# Altium schematic symbol library IC_Ext_4000.SchLib: 1 symbol
Pins are listed as number, name and electrical type; pins without a type are passive.

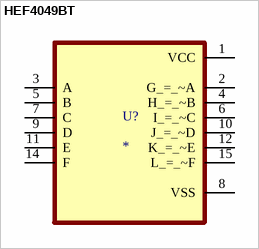
[diagram p0: symbol HEF4049BT]

## HEF4049BT
designator U?
CMOS 4049 hex Inverters; BOM_Manufacturer: Nexperia; BOM_Manufacturer Part: HEF4049BT; SMT Type: Extend; BOM_JLCPCB SMD: Yes; BOM_LCSC Assembly: Yes; BOM_Supplier: LCSC; BOM_Supplier Part: C6735; ComponentLink1URL: https://lcsc.com/product-detail/4000-Series_Nexperia-HEF4049BT_C6735.html; Datasheet: https://datasheet.lcsc.com/szlcsc/1809291820_Nexperia-HEF4049BT_C6735.pdf; JLCPCB_Mount: SMD; Package: SOIC-16_150mil; Supplier: LC
footprint SOIC127P600X175-16N
pins: 1 VCC (power), 2 G_=_~A, 3 A, 4 H_=_~B, 5 B, 6 I_=_~C, 7 C, 8 VSS (power), 9 D, 10 J_=_~D, 11 E, 12 K_=_~E, 14 F, 15 L_=_~F